# EAGLE library part MCP73831-2ACI/MC (library MCP73831-2ACI_MC)
MCP73831 Series Single-Cell Li-Ion/Li-Polymer Battery Charge Controller - DFN-8 Check availability <https://pricing.snapeda.com/parts/MCP73831-2ACI/MC/Microchip/view-part?ref=eda>
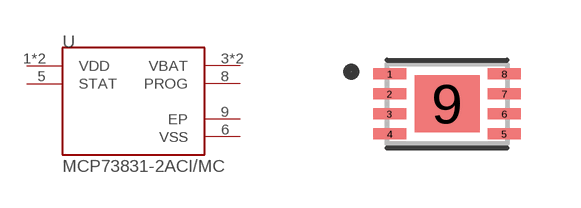
[diagram p0: symbol with the pads of SON50P200X300X100-9N; footprint SON50P200X300X100-9N]

Designator prefix U

## MCP73831-2ACI/MC (Availability: In Stock; Check_prices: https://www.snapeda.com/parts/MCP73831-2ACI/MC/Microchip/view-part/?ref=eda; Description: Charge Controller Li-Ion/Li-Pol 15mA to 500mA 4.2V 8-Pin DFN EP | Microchip Technology Inc. MCP73831-2ACI/MC; MF: Microchip; MP: MCP73831-2ACI/MC; Package: VFDFN-8 Microchip; Price: None; SnapEDA_Link: https://www.snapeda.com/parts/MCP73831-2ACI/MC/Microchip/view-part/?ref=snap)  [SON50P200X300X100-9N]
1  VDD  pwr
2  VDD  pwr
3  VBAT  out
4  VBAT  out
5  STAT  out
6  VSS  pwr
8  PROG  in
9  EP  pwr

## Footprint SON50P200X300X100-9N (pad centres in mm)
smd 0.84 x 0.27: 1 -1.435,0.75; 2 -1.435,0.25; 3 -1.435,-0.25; 4 -1.435,-0.75; 5 1.435,-0.75; 6 1.435,-0.25; 7 1.435,0.25; 8 1.435,0.75
smd 1.625 x 1.425: 9 0,0